# Altium footprint library lib-Crystals_pcb.PcbLib: 2 footprints
Each footprint in its own frame and in the unit in brackets; x right, y up, seen from the top. Pads: shape width x height; smd on the part's side, far side on the other; paste and mask are expansions set on the pad; w line width, h text height; cw(c..) or ccw(c..) is an arc to the next point about the centre after c.
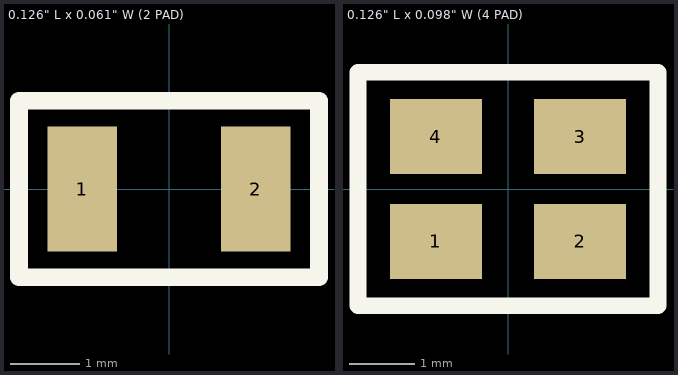
[diagram p0: the footprints below, top view; thin cyan lines are the x and y axes]

## 0.126" L x 0.061" W (2 PAD) [mm] "0.126\" x 0.061\" Crystal"
pads (2):
  rect 1x1.8 smd: 1(-1.25,0) 2(1.25,0)
Top Overlay:
  lines w0.254: -2.159,-1.27 -2.159,1.27 2.159,1.27 2.159,-1.27 -2.159,-1.27
3D body: height 0.8, standoff 0, extent -1.778,-0.889 1.778,0.889

## 0.126" L x 0.098" W (4 PAD) [mm] "0.126\" L x 0.098\" W Crystal"
height 0.7
pads (4):
  rect 1.4x1.15 smd: 1(-1.1,-0.8) 2(1.1,-0.8) 3(1.1,0.8) 4(-1.1,0.8)
Top Overlay:
  lines w0.254: -2.286,-1.778 -2.286,1.778 2.286,1.778 2.286,-1.778 -2.286,-1.778
3D body: height 0.6, standoff 0, extent -2.032,-1.524 2.032,1.524